# Altium footprint library 通讯接口.PcbLib: 39 footprints (part 1 of 3)
Each footprint in its own frame and in the unit in brackets; x right, y up, seen from the top. Pads: shape width x height; smd on the part's side, far side on the other; paste and mask are expansions set on the pad; w line width, h text height; cw(c..) or ccw(c..) is an arc to the next point about the centre after c.
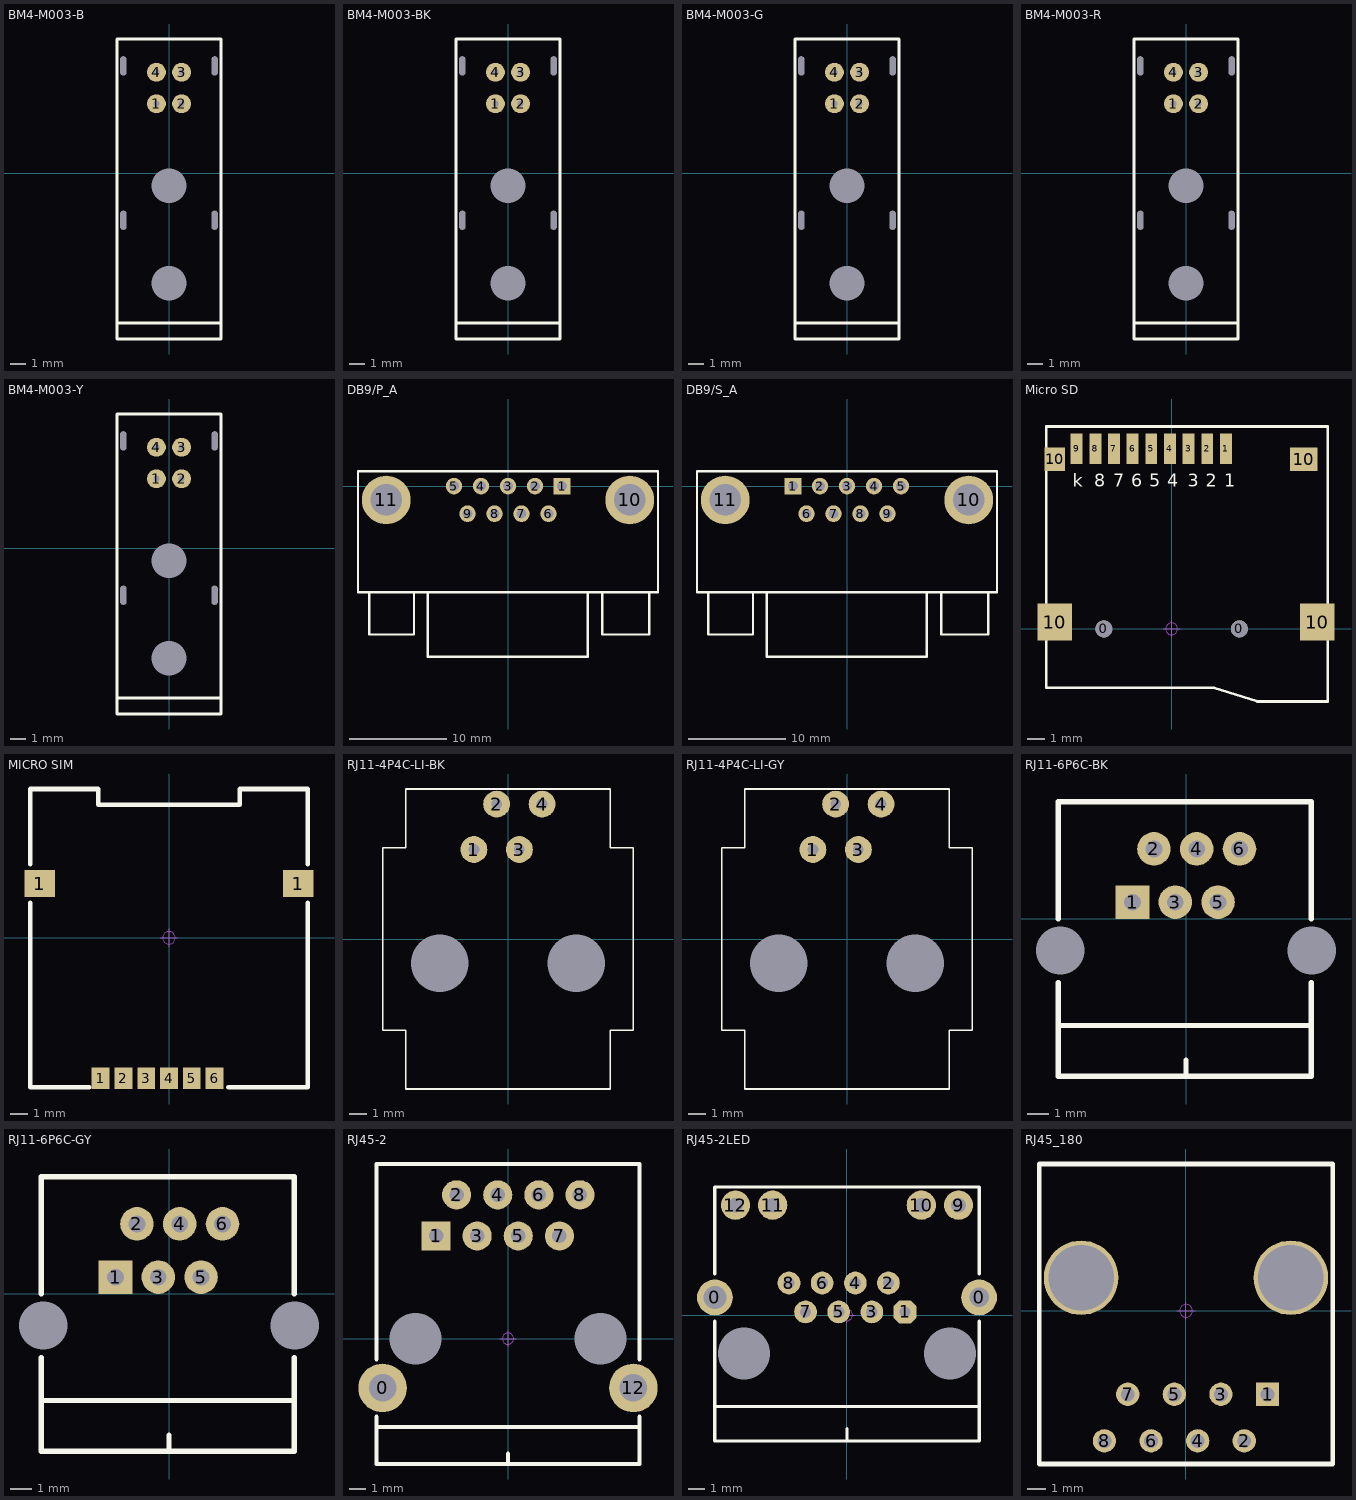
[diagram p0: the footprints below, top view; thin cyan lines are the x and y axes]

## BM4-M003-B [mm] "宝马头板端弯头（蓝色）"
pads (10):
  round 0 hole 0.4 slot 1.2 at 90 deg unplated: 0(-2.9,-3) 0(-2.9,6.8) 0(2.9,-3) 0(2.9,6.8)
  round 0 hole 2.2 unplated: 0(0,-7) 0(0,-0.8)
  round 1.2 hole 0.4: 1(-0.8,4.4) 2(0.8,4.4) 3(0.8,6.4) 4(-0.8,6.4)
Top Overlay:
  lines w0.203: -3.302,-9.525 3.302,-9.525 ; -3.302,-10.541 3.302,-10.541 3.302,8.509 -3.302,8.509 -3.302,-10.541
3D body "BM4-M003-B.STEP": height 6.65, standoff -2.15, extent -3.1,-10.45 3.1,8.45

## BM4-M003-BK [mm] "宝马头板端弯头（黑色）"
pads (10):
  round 0 hole 0.4 slot 1.2 at 90 deg unplated: 0(-2.9,-3) 0(-2.9,6.8) 0(2.9,-3) 0(2.9,6.8)
  round 0 hole 2.2 unplated: 0(0,-7) 0(0,-0.8)
  round 1.2 hole 0.4: 1(-0.8,4.4) 2(0.8,4.4) 3(0.8,6.4) 4(-0.8,6.4)
Top Overlay:
  lines w0.203: -3.302,-9.525 3.302,-9.525 ; -3.302,-10.541 -3.302,8.509 3.302,8.509 3.302,-10.541 -3.302,-10.541
3D body "BM4-M003-BK.STEP": height 6.65, standoff -2.15, extent -3.1,-10.45 3.1,8.45

## BM4-M003-G [mm] "宝马头板端弯头（绿色）"
pads (10):
  round 0 hole 0.4 slot 1.2 at 90 deg unplated: 0(-2.9,-3) 0(-2.9,6.8) 0(2.9,-3) 0(2.9,6.8)
  round 0 hole 2.2 unplated: 0(0,-7) 0(0,-0.8)
  round 1.2 hole 0.4: 1(-0.8,4.4) 2(0.8,4.4) 3(0.8,6.4) 4(-0.8,6.4)
Top Overlay:
  lines w0.203: -3.302,-9.525 3.302,-9.525 ; -3.302,-10.541 -3.302,8.509 3.302,8.509 3.302,-10.541 -3.302,-10.541
3D body "BM4-M003-G.STEP": height 6.65, standoff -2.15, extent -3.1,-10.45 3.1,8.45

## BM4-M003-R [mm] "宝马头板端弯头（红色）"
pads (10):
  round 0 hole 0.4 slot 1.2 at 90 deg unplated: 0(-2.9,-3) 0(-2.9,6.8) 0(2.9,-3) 0(2.9,6.8)
  round 0 hole 2.2 unplated: 0(0,-7) 0(0,-0.8)
  round 1.2 hole 0.4: 1(-0.8,4.4) 2(0.8,4.4) 3(0.8,6.4) 4(-0.8,6.4)
Top Overlay:
  lines w0.203: -3.302,-9.525 3.302,-9.525 ; -3.302,-10.541 3.302,-10.541 3.302,8.509 -3.302,8.509 -3.302,-10.541
3D body "BM4-M003-R.STEP": height 6.65, standoff -2.15, extent -3.1,-10.45 3.1,8.45

## BM4-M003-Y [mm] "宝马头板端弯头（黄色）"
pads (10):
  round 0 hole 0.4 slot 1.2 at 90 deg unplated: 0(-2.9,-3) 0(-2.9,6.8) 0(2.9,-3) 0(2.9,6.8)
  round 0 hole 2.2 unplated: 0(0,-7) 0(0,-0.8)
  round 1.2 hole 0.4: 1(-0.8,4.4) 2(0.8,4.4) 3(0.8,6.4) 4(-0.8,6.4)
Top Overlay:
  lines w0.203: -3.302,-9.525 3.302,-9.525 ; -3.302,-10.541 -3.302,8.509 3.302,8.509 3.302,-10.541 -3.302,-10.541
3D body "BM4-M003-Y.STEP": height 6.65, standoff -2.15, extent -3.1,-10.45 3.1,8.45

## DB9/P_A [mm] "9针公头串口,31*18.5*12.5mm"
pads (11):
  rect 1.7x1.7 hole 1: 1(5.546,0)
  round 1.7 hole 1: 2(2.773,0) 3(0,0) 4(-2.773,0) 5(-5.546,0) 6(4.155,-2.84) 7(1.385,-2.84) 8(-1.385,-2.84) 9(-4.155,-2.84)
  round 5 hole 3.25: 10(12.5,-1.42) 11(-12.5,-1.42)
Top Overlay:
  lines w0.254: -14.224,-10.922 -14.224,-15.24 -9.652,-15.24 -9.652,-10.922 ; -8.225,-10.922 -8.225,-17.526 8.175,-17.526 8.175,-10.922 ; 9.652,-10.922 9.652,-15.24 14.478,-15.24 14.478,-10.922 ; -15.4,-10.922 -15.4,1.524 15.4,1.524 15.4,-10.922 -15.4,-10.922
Mechanical 15:
  circle w0.05: c0,0 r0.35
  lines w0.05: -0.5,0 0.5,0 ; 0,-0.5 0,0.5
3D body "DB9 ĸ_A.STEP": height 12.65, standoff -3.16, extent -15.45,-17.247 15.45,1.253

## DB9/S_A [mm] "9针母头串口,31*18.5*12.5mm"
pads (11):
  rect 1.7x1.7 hole 1: 1(-5.546,0)
  round 1.7 hole 1: 2(-2.773,0) 3(0,0) 4(2.773,0) 5(5.546,0) 6(-4.155,-2.84) 7(-1.385,-2.84) 8(1.385,-2.84) 9(4.155,-2.84)
  round 5 hole 3.25: 10(12.5,-1.42) 11(-12.5,-1.42)
Top Overlay:
  lines w0.254: -14.224,-10.922 -14.224,-15.24 -9.652,-15.24 -9.652,-10.922 ; -8.225,-10.922 -8.225,-17.526 8.175,-17.526 8.175,-10.922 ; 9.652,-10.922 9.652,-15.24 14.478,-15.24 14.478,-10.922 ; -15.4,-10.922 15.4,-10.922 15.4,1.524 -15.4,1.524 -15.4,-10.922
Mechanical 15:
  circle w0.05: c0,0 r0.35
  lines w0.05: -0.5,0 0.5,0 ; 0,-0.5 0,0.5
3D body "DB9 公_A.STEP": height 12.65, standoff -3.16, extent -15.45,-17.247 15.45,1.253

## Micro SD [mm]
pads (15):
  round 1 hole 1 unplated: 0(-4,0) 0(4,0)
  rect 0.7x1.8 smd: 1(3.2,10.627) 2(2.1,10.627) 3(1,10.627) 4(-0.1,10.627) 5(-1.2,10.627) 6(-2.3,10.627) 7(-3.4,10.627) 8(-4.5,10.627) 9(-5.6,10.627)
  rect 2.032x2.2 smd: 10(-6.9,0.4) 10(8.6,0.4)
  rect 1.2x1.4 smd: 10(-6.9,10)
  rect 1.6x1.4 smd: 10(7.8,10)
Top Overlay:
  lines w0.152: 2.489,-3.47 5.054,-4.283 9.204,-4.283 9.204,11.938 -7.402,11.938 -7.402,-3.47 2.514,-3.47
  text "k" at -5.842,8.382 h0.76
  text "8" at -4.572,8.382 h0.76
  text "7" at -3.455,8.382 h0.76
  text "6" at -2.388,8.382 h0.76
  text "5" at -1.321,8.382 h0.76
  text "4" at -0.254,8.382 h0.76
  text "3" at 0.939,8.382 h0.76
  text "2" at 2.006,8.382 h0.76
  text "1" at 3.098,8.382 h0.76
Mechanical 15:
  circle w0.05: c0,0 r0.35
  lines w0.05: -0.5,0 0.5,0 ; 0,-0.5 0,0.5
3D body "TF 卡座-A.STE": height 2, standoff -0.45, extent -7.05,-4 8.95,11.25

## MICRO SIM [mm] "16.30mm*14.66mm*1.8mm(长*宽*厚）"
pads (8):
  rect 1.7x1.5 smd: 1(-7.2,3.02) 1(7.2,3.02)
  rect 1x1.2 smd: 1(-3.81,-7.83) 2(-2.54,-7.83) 3(-1.27,-7.83) 4(0,-7.83) 5(1.27,-7.83) 6(2.54,-7.83)
Top Overlay:
  lines w0.254: -7.747,1.949 -7.747,-8.338 -4.445,-8.338 ; -7.747,4.108 -7.747,8.299 -3.937,8.299 -3.937,7.41 3.937,7.41 3.937,8.299 7.747,8.299 7.747,4.108 ; 3.302,-8.338 7.747,-8.338 7.747,1.949
Mechanical 15:
  circle w0.05: c0,0 r0.35
  lines w0.05: -0.5,0 0.5,0 ; 0,-0.5 0,0.5
3D body "MICRO SIM.STEP": height 1.85, standoff 0.04, extent -7.58,-8.13 7.58,8.13

## RJ11-4P4C-LI-BK [mm] "16.5mm*13.8mm*16.38mm(长*宽*高)"
pads (6):
  round 0 hole 3.2: 0(-3.81,-1.35) 0(3.81,-1.35)
  round 1.5 hole 0.6: 1(-1.905,5) 2(-0.635,7.54) 3(0.635,5) 4(1.905,7.54)
Top Overlay:
  lines w0.1: -7,-5.1 -5.715,-5.1 -5.715,-8.382 5.715,-8.382 5.715,-5.1 7,-5.1 7,5.1 5.715,5.1 5.715,8.382 -5.715,8.382 -5.715,5.1 -7,5.1 -7,-5.1
3D body "RJ11-4P4C-BK.STEP": height 16.38, standoff -3.2, extent -6.9,-8.25 6.9,8.25

## RJ11-4P4C-LI-GY [mm] "16.5mm*13.8mm*16.38mm(长*宽*高)"
pads (6):
  round 0 hole 3.2: 0(-3.81,-1.35) 0(3.81,-1.35)
  round 1.5 hole 0.6: 1(-1.905,5) 2(-0.635,7.54) 3(0.635,5) 4(1.905,7.54)
Top Overlay:
  lines w0.1: -7,-5.1 -7,5.1 -5.715,5.1 -5.715,8.382 5.715,8.382 5.715,5.1 7,5.1 7,-5.1 5.715,-5.1 5.715,-8.382 -5.715,-8.382 -5.715,-5.1 -7,-5.1
3D body "RJ11-4P4C-GY.STEP": height 16.38, standoff -3.2, extent -6.9,-8.25 6.9,8.25

## RJ11-6P6C-BK [mm] "12mm*12mm*14.55mm(长*宽*高)"
pads (8):
  round 0 hole 2.3: 0(-6,-1.5) 0(6,-1.5)
  rect 1.6x1.6 hole 0.8: 1(-2.55,0.8)
  round 1.6 hole 0.8: 2(-1.53,3.34) 3(-0.51,0.8) 4(0.51,3.34) 5(1.53,0.8) 6(2.55,3.34)
Top Overlay:
  lines w0.254: -6.096,-5.08 5.969,-5.08 ; -6.096,-3.048 -6.096,-7.5 5.969,-7.5 5.969,-3.048 ; -6.096,0 -6.096,5.588 5.969,5.588 5.969,0 ; 0,-7.5 0,-6.731
3D body "RJ11-6P6C-WI-BK.STEP": height 14.6, standoff -3.45, extent -7.15,-7.5 7.15,5.5

## RJ11-6P6C-GY [mm] "12mm*12mm*14.55mm(长*宽*高)"
pads (8):
  round 0 hole 2.3: 0(-6,-1.5) 0(6,-1.5)
  rect 1.6x1.6 hole 0.8: 1(-2.55,0.8)
  round 1.6 hole 0.8: 2(-1.53,3.34) 3(-0.51,0.8) 4(0.51,3.34) 5(1.53,0.8) 6(2.55,3.34)
Top Overlay:
  lines w0.254: -6.096,-5.08 5.969,-5.08 ; -6.096,-3.048 -6.096,-7.5 5.969,-7.5 5.969,-3.048 ; -6.096,0 -6.096,5.588 5.969,5.588 5.969,0 ; 0,-7.5 0,-6.731
3D body "RJ11-6P6C-WI-GY.STEP": height 14.6, standoff -3.45, extent -7.15,-7.5 7.15,5.5

## RJ45-2 [mm] "RJ45屏蔽网络插座-短款8P"
pads (12):
  round 3 hole 1.7: 0(-7.75,-3.048) 12(7.75,-3.048)
  rect 1.8x1.8 hole 0.9: 1(-4.445,6.35)
  round 1.8 hole 0.9: 2(-3.175,8.89) 3(-1.905,6.35) 4(-0.635,8.89) 5(0.635,6.35) 6(1.905,8.89) 7(3.175,6.35) 8(4.445,8.89)
  round 0 hole 3.2 unplated: 8(-5.715,0) 9(5.715,0)
Top Overlay:
  lines w0.254: -8.128,-5.45 8.128,-5.45 ; -8.128,-4.826 -8.128,-7.747 8.128,-7.747 8.128,-4.826 ; -8.128,-1.27 -8.128,10.795 8.128,10.795 8.128,-1.27 ; 0,-7.747 0,-7.112
Mechanical 15:
  circle w0.05: c0,0 r0.35
  lines w0.05: -0.5,0 0.5,0 ; 0,-0.5 0,0.5
3D body "Mod-Jack-K122449007-Stig-W.STEP": height 3.25, standoff -14.1, extent -7.999,-7.777 8.001,10.723

## RJ45-2LED [mm] "RJ45屏蔽网络插座带LED"
pads (16):
  round 2.2 hole 1.4: 0(-8.128,1.08)
  round 2.2 hole 1.2: 0(8.128,1.08)
  oct 1.4x1.4 hole 0.7: 1(3.57,0.19)
  round 1.4 hole 0.7: 2(2.55,1.97) 3(1.53,0.19) 4(0.51,1.97) 5(-0.51,0.19) 6(-1.53,1.97) 7(-2.55,0.19) 8(-3.57,1.97)
  round 0 hole 3.2 unplated: 9(-6.35,-2.363) 10(6.35,-2.363)
  round 1.8 hole 0.9 unplated: 9(6.86,6.757) 10(4.57,6.757) 11(-4.57,6.757) 12(-6.86,6.757)
Top Overlay:
  lines w0.203: -8.128,-5.626 8.128,-5.626 ; -8.128,-0.381 -8.128,-7.747 8.128,-7.747 8.128,-0.381 ; 0,-7.747 0,-6.985 ; -8.128,2.54 -8.128,7.874 8.128,7.874 8.128,2.54 ; -8.128,2.54 -8.128,2.54 ; 8.128,2.54 8.128,2.54
Mechanical 15:
  circle w0.05: c0,0 r0.35
  lines w0.05: -0.5,0 0.5,0 ; 0,-0.5 0,0.5
3D body "RJ45-2LED.STEP": height 12.85, standoff -2.95, extent -7.95,-7.65 7.95,7.75

## RJ45_180 [mil] "网线接口"
height 53.15
pads (10):
  rect 50x50 hole 30: 1(175,-179.13)
  round 50 hole 30: 2(125,-279.13) 3(75,-179.13) 4(25,-279.13) 5(-25,-179.13) 6(-75,-279.13) 7(-125,-179.13) 8(-175,-279.13)
  round 160 hole 140: ""(-225,70.87) ""(225,70.87)
Top Overlay:
  lines w10: -314.96,-328.74 -314.96,314.96 314.96,314.96 314.96,-328.74 -314.96,-328.74
Mechanical 15:
  circle w1.97: c0,0 r13.78
  lines w1.97: -19.68,0 19.68,0 ; 0,-19.68 0,19.68
3D body "RJ-45, 8P8C, MOD JACK, TOP ENTRY, CAT 5E, RIA AJT26A8813.STEP": height 641.73, standoff -129.92, extent -305.11,-314.96 305.12,307.09